# Altium schematic symbol library CustomLib.SchLib: 1 symbol
Pins are listed as number, name and electrical type; pins without a type are passive.

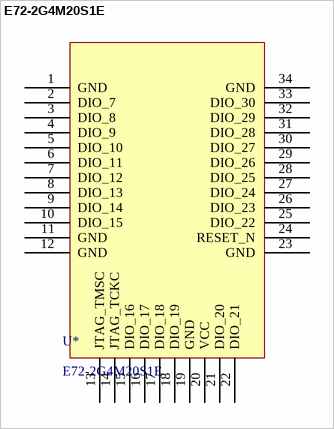
[diagram p0: symbol E72-2G4M20S1E]

## E72-2G4M20S1E
designator U*
footprint RF-BM-2652P2
pins: 1 GND, 2 DIO_7, 3 DIO_8, 4 DIO_9, 5 DIO_10, 6 DIO_11, 7 DIO_12, 8 DIO_13, 9 DIO_14, 10 DIO_15, 11 GND, 12 GND, 13 JTAG_TMSC, 14 JTAG_TCKC, 15 DIO_16, 16 DIO_17, 17 DIO_18, 18 DIO_19, 19 GND, 20 VCC, 21 DIO_20, 22 DIO_21, 23 GND, 24 RESET_N, 25 DIO_22, 26 DIO_23, 27 DIO_24, 28 DIO_25, 29 DIO_26, 30 DIO_27, 31 DIO_28, 32 DIO_29, 33 DIO_30, 34 GND